# Altium schematic symbol library master-010106.SCHLIB: 122 symbols (part 3 of 3)
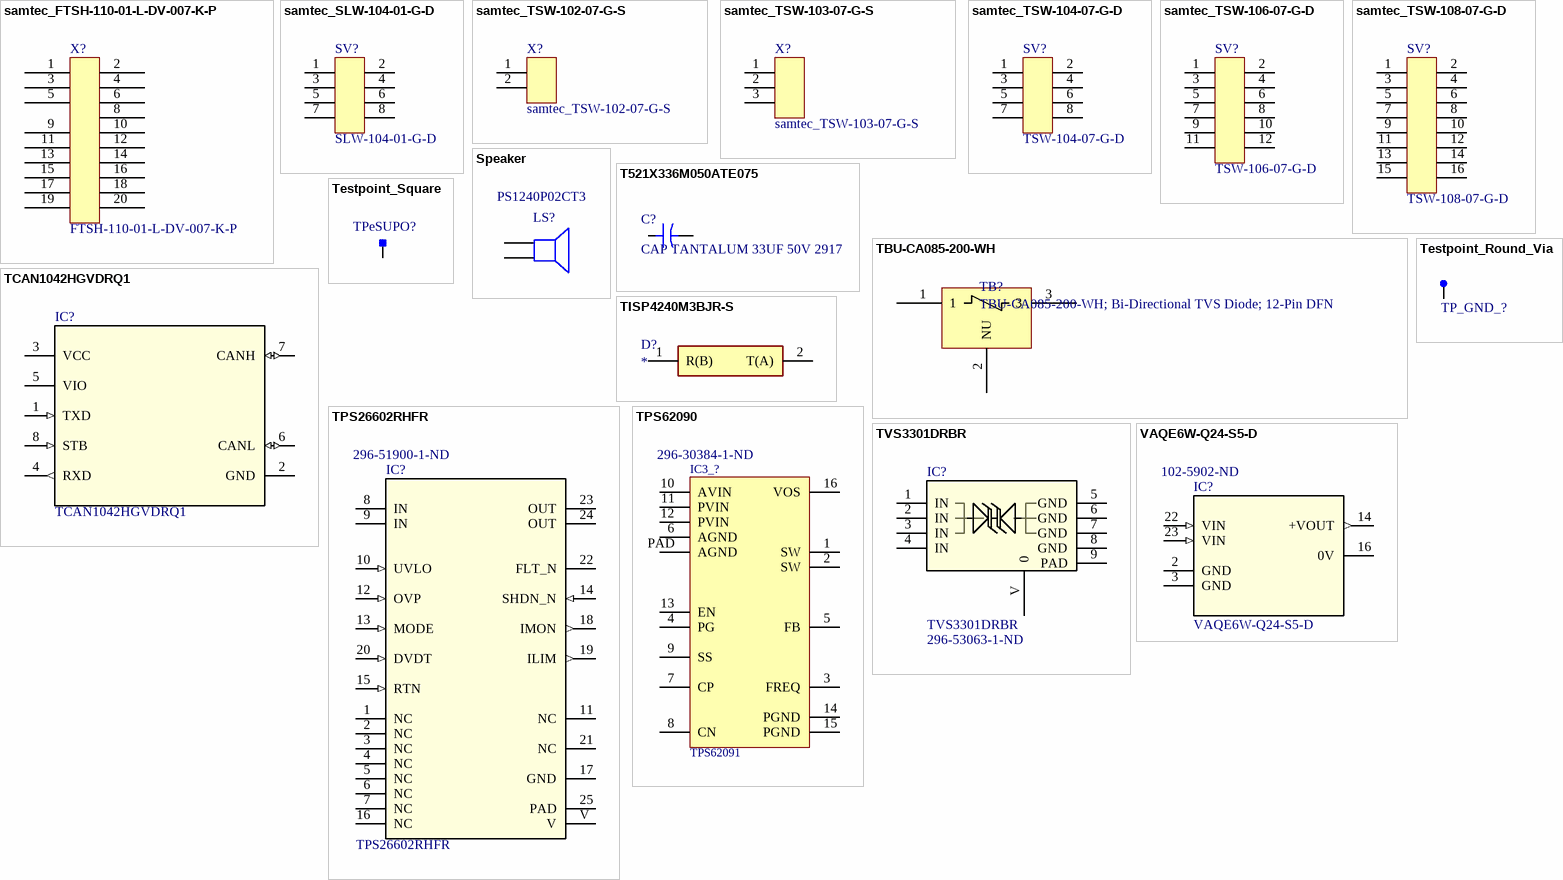
[diagram p5: symbols samtec_FTSH-110-01-L-DV-007-K-P to VAQE6W-Q24-S5-D]

## samtec_TSW-102-07-G-S
designator X?
Board-To-Board Connector, Vertical, 2.54 mm, 2 Contacts, Header, TSW Series, Through Hole, 1 Row; Manufacturer: Samtec; Circuits: 2; Automotive Qualified: False; Part Number: samtec_TSW-102-07-G-S; Part Name: TSW-102-07-G-S; Operating Temperature: -55°C - +125°C; ComponentLink1Description: Datasheet; ComponentLink1URL: http://www.farnell.com/datasheets/1796313.pdf; Supplier 1: Farnell; Supplier Part Number 1: 2505044
footprint Pinheader_2.54_2 (Pinheader, 2.54mm, gerade)
pins: 1, 2

## samtec_TSW-103-07-G-S
designator X?
Board-To-Board Connector, Vertical, 2.54 mm, 3 Contacts, Header, TSW Series, Through Hole, 1 Row; Manufacturer: Samtec; Circuits: 3; Automotive Qualified: False; Part Number: samtec_TSW-103-07-G-S; Part Name: TSW-103-07-G-S; Operating Temperature: -55°C - +125°C; ComponentLink1Description: Datasheet; ComponentLink1URL: http://www.farnell.com/datasheets/1796313.pdf; Supplier 1: Farnell; Supplier Part Number 1: 2505045
footprint Pinheader_2.54_3 (Pinheader, 2.54mm, gerade)
pins: 1, 2, 3

## samtec_TSW-104-07-G-D
designator SV?, comment TSW-104-07-G-D
Board-To-Board Connector, Vertical, 2.54 mm, 8 Contacts, Header, TSW Series, Through Hole, 2 Rows; Manufacturer: Samtec; Circuits: 8; Rated Voltage: 500V AC mated with SSW; Automotive Qualified: False; Part Number: TSW-104-07-G-D; Part Name: TSW-104-07-G-D; Operating Temperature: -55°C - +125°C; ComponentLink1Description: Datasheet; ComponentLink1URL: http://www.farnell.com/datasheets/1992055.pdf; Supplier 1: Farnell; Supplier Part Number 1: 2025250; System: Connector
footprint Pinheader_2.54_2x4 (Pinheader, 2.54mm, gerade, 2-reihig)
pins: 1, 2, 3, 4, 5, 6, 7, 8

## samtec_TSW-106-07-G-D
designator SV?, comment TSW-106-07-G-D
Board-To-Board Connector, Vertical, 2.54 mm, 12 Contacts, Header, TSW Series, Through Hole, 2 Rows; Manufacturer: Samtec; Circuits: 12; Rated Voltage: 500V AC mated with SSW; Automotive Qualified: False; Part Number: TSW-106-07-G-D; Part Name: TSW-106-07-G-D; Operating Temperature: -55°C - +125°C; ComponentLink1Description: Datasheet; ComponentLink1URL: http://www.farnell.com/datasheets/1992055.pdf?_ga=2.196729640.569325269.1503285096-1413671594.1503025027; Supplier 1: Farnell; Supplier Part Number 1: 2025252
footprint Pinheader_2.54_2x6 (Pinheader, 2.54mm, gerade, 2-reihig)
pins: 1, 2, 3, 4, 5, 6, 7, 8, 9, 10, 11, 12

## samtec_TSW-108-07-G-D
designator SV?, comment TSW-108-07-G-D
Board-To-Board Connector, Vertical, 2.54 mm, 16 Contacts, Header, TSW Series, Through Hole, 2 Rows; Manufacturer: Samtec; Circuits: 16; Rated Voltage: 500V AC mated with SSW; Automotive Qualified: False; Part Number: TSW-108-07-G-D; Part Name: TSW-108-07-G-D; Operating Temperature: -55°C - +125°C; ComponentLink1Description: Datasheet; ComponentLink1URL: http://www.farnell.com/datasheets/2061825.pdf; Supplier 1: Farnell; Supplier Part Number 1: 2578721; System: Connector
footprint Pinheader_2.54_2x8 (Pinheader, 2.54mm, gerade, 2-reihig)
pins: 1, 2, 3, 4, 5, 6, 7, 8, 9, 10, 11, 12, 13, 14, 15, 16

## Speaker
designator LS?, comment PS1240P02CT3
Loudspeaker; ID: 17009; DBDesc: BUZZER PIEZO 4KHZ 12.2MM PC MNT, RoHS compliant
footprint PS12
pins: 1, 2

## T521X336M050ATE075
designator C?, comment CAP TANTALUM 33UF 50V 2917
33µF Molded Tantalum Polymer Capacitor 50V 2917 (7343 Metric) 75mOhm @ 100kHz; Supplier 1: Digi-Key; Supplier Part Number 1: 399-11721-1-ND
footprint CAPC7343X430M (KEMET KO-CAP® T521 2917 (7343 Metric) Max)
pins: 1, 2

## TBU-CA085-200-WH
designator TB?, comment TBU-CA085-200-WH; Bi-Directional TVS Diode; 12-Pin DFN
footprint Bourns-TBU-CA (TBU-CA085-200-WH; Bi-Directional TVS Diode; 12-Pin DFN)
pins: 1, 2 NU, 3

## TCAN1042HGVDRQ1
designator IC?
Imported; PartNumber: TCAN1042HGVDQ1; Manufacturer: Texas Instruments; RefDes: RefDes; TYPE: TYPE; Value: Value; Part Number: TCAN1042HGVDRQ1
footprint D0008A_N
pins: 1 TXD (in), 2 GND (power), 3 VCC (power), 4 RXD (out), 5 VIO (power), 6 CANL (io), 7 CANH (io), 8 STB (in)

## Testpoint_Round_Via
designator TP_GND_?, comment Testpoint_Round  (value not drawn)  (no BOM)
Testpoint, Via, round; Part Number: Testpoint_Round_Via
footprint Testpoint_D1V (Testpunkt, Via, rund 1mm)
pins: 1

## Testpoint_Square
designator TPeSUPO?  (value not drawn)  (no BOM)
Testpoint, square; Part Number: Testpoint_Square
footprint Testpoint_S1 (Testpunkt, quardratisch 1mm)
footprint Testpoint_S2
pins: 1

## TISP4240M3BJR-S
designator D?
Thyristor; Manufacturer_Name: Bourns; Manufacturer_Part_Number: TISP4240M3BJR-S; Datasheet Link: http://html.alldatasheet.com/html-pdf/160733/BOURNS/TISP4240M3BJR-S/2984/13/TISP4240M3BJR-S.html; Mouser Part Number: 652-TISP4240M3BJR-S; Mouser Price/Stock: https://www.mouser.com/Search/Refine.aspx?Keyword=652-TISP4240M3BJR-S
footprint SMBJ(DO-214AA)
pins: 1 R(B), 2 T(A)

## TPS26602RHFR
designator IC?  Supplier Part Number 1: 296-51900-1-ND
37V Clamped input protection; Manufacturer: Texas Instruments; PartNumber: TPS26602RHFR; RefDes: RefDes; TYPE: TYPE; Value: Value; Part Number: TPS26602RHFR; Supplier 1: Digi-Key
footprint RHF0024A
pins: 1 NC, 2 NC, 3 NC, 4 NC, 5 NC, 6 NC, 7 NC, 8 IN (power), 9 IN (power), 10 UVLO (in), 11 NC, 12 OVP (in), 13 MODE (in), 14 SHDN_N (in), 15 RTN (in), 16 NC, 17 GND (power), 18 IMON (out), 19 ILIM (out), 20 DVDT (in), 21 NC, 22 FLT_N (oc), 23 OUT (power), 24 OUT (power), 25 PAD (power), V

## TPS62090
designator IC3_?, comment TPS62091  Supplier Part Number 1: 296-30384-1-ND
TI TPS62091 Integrated Sync. Buck Converter, 3x3mm QFN-16, RoHS compliant; DBDesc: '''TI TPS62091 Integrated Sync. Buck Converter''' / - fsw=1.4/2.8MHz / - Vin = 2.5-6V, Vout=0.8-Vin, Iout=3A / - 3x3mm QFN-16, RoHS compliant; ID: 21555; Part Number: TPS62091; Supplier 1: Digi-Key
footprint QFN-16-TI (Quad flat no-lead 16-pin Linear Technology)
pins: 1 SW, 2 SW, 3 FREQ, 4 PG, 5 FB, 6 AGND, 7 CP, 8 CN, 9 SS, 10 AVIN, 11 PVIN, 12 PVIN, 13 EN, 14 PGND, 15 PGND, 16 VOS, PAD AGND

## TVS3301DRBR
designator IC?  Supplier Part Number 1: 296-53063-1-ND
TVS3301 33-V Bidirectional Flat-Clamp Surge Protection Device; Manufacturer: Texas Instruments; Part Number: TVS3301DRBR; RefDes: RefDes; TYPE: TYPE; Value: Value; Supplier 1: Digi-Key
footprint DRB0008F
pins: 1 IN, 2 IN, 3 IN, 4 IN, 5 GND, 6 GND, 7 GND, 8 GND, 9 PAD, V 0

## VAQE6W-Q24-S5-D
designator IC?  Supplier Part Number 1: 102-5902-ND
DC DC CONVERTER 5V 6W; Input: 9-36V; Output: 5V 1.2A; Power: 6W; PartNumber: VAQE6W-Q24-S5-D; Part Number: VAQE6W-Q24-S5-D; Supplier 1: Digi-Key
footprint VAQE6W-Q24-S5-D (Isolated Module DC DC Converter 1 Output 5V 1.2A 9V - 36V Input)
pins: 2 GND (power), 3 GND (power), 14 +VOUT (out), 16 0V (power), 22 VIN (in), 23 VIN (in)